# Altium footprint library TS4148 RXG.PcbLib: 1 footprints
Each footprint in its own frame and in the unit in brackets; x right, y up, seen from the top. Pads: shape width x height; smd on the part's side, far side on the other; paste and mask are expansions set on the pad; w line width, h text height; cw(c..) or ccw(c..) is an arc to the next point about the centre after c.
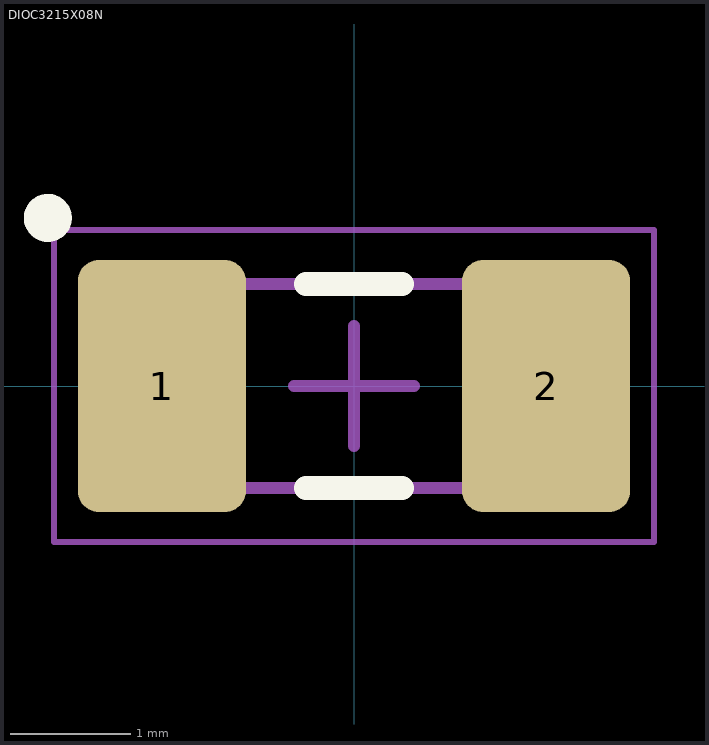
[diagram p0: the footprint, top view; thin cyan lines are the x and y axes]

## DIOC3215X08N [mm] "Chip Diode, 2-Leads, Body 3.20x1.50mm, IPC Medium Density"
height 0.85
pads (2):
  rrect25% 1.4x2.1 smd: 1(-1.6,0) 2(1.6,0)
Top Overlay:
  circle w0.2: c-2.55,1.4 r0.1
  lines w0.2: -0.4,-0.85 0.4,-0.85 ; -0.4,0.85 0.4,0.85
Mechanical 13:
  lines w0.1: -1.7,-0.85 1.7,-0.85 1.7,0.85 -1.7,0.85 -1.7,-0.85
Mechanical 15:
  lines w0.05: -2.5,-1.3 2.5,-1.3 2.5,1.3 -2.5,1.3 -2.5,-1.3
  lines w0.1: -0.5,0 0.5,0 ; 0,-0.5 0,0.5
3D body "DIOC3215X08N.step": height 0.85, standoff 0, extent -1.7,-0.85 1.7,0.85